# EAGLE library part 404-5X068-5X (library con-ept-one27)
ept One27 female straight 68pins 1.27 mm pitch SMT Board-to-Board Connector System for parallel, horizontal and perpendicular PCB connections as well as cable-to-board connections. For mezzanine board-to-board connections from 8mm up to 13.8mm. Available with 12 to 80 pins. www.ept.de
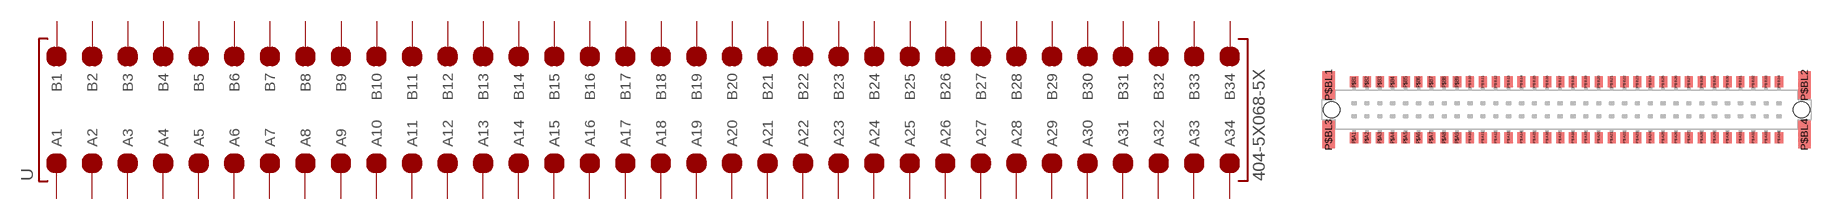
[diagram p25: symbol with the pads of 404-5X068-5X; footprint 404-5X068-5X]

Designator prefix -

## 404-5X068-5X  [404-5X068-5X]
P$A1  A1  pas
P$A2  A2  pas
P$A3  A3  pas
P$A4  A4  pas
P$A5  A5  pas
P$A6  A6  pas
P$A7  A7  pas
P$A8  A8  pas
P$A9  A9  pas
P$A10  A10  pas
P$A11  A11  pas
P$A12  A12  pas
P$A13  A13  pas
P$A14  A14  pas
P$A15  A15  pas
P$A16  A16  pas
P$A17  A17  pas
P$A18  A18  pas
P$A19  A19  pas
P$A20  A20  pas
P$A21  A21  pas
P$A22  A22  pas
P$A23  A23  pas
P$A24  A24  pas
P$A25  A25  pas
P$A26  A26  pas
P$A27  A27  pas
P$A28  A28  pas
P$A29  A29  pas
P$A30  A30  pas
P$A31  A31  pas
P$A32  A32  pas
P$A33  A33  pas
P$A34  A34  pas
P$B1  B1  pas
P$B2  B2  pas
P$B3  B3  pas
P$B4  B4  pas
P$B5  B5  pas
P$B6  B6  pas
P$B7  B7  pas
P$B8  B8  pas
P$B9  B9  pas
P$B10  B10  pas
P$B11  B11  pas
P$B12  B12  pas
P$B13  B13  pas
P$B14  B14  pas
P$B15  B15  pas
P$B16  B16  pas
P$B17  B17  pas
P$B18  B18  pas
P$B19  B19  pas
P$B20  B20  pas
P$B21  B21  pas
P$B22  B22  pas
P$B23  B23  pas
P$B24  B24  pas
P$B25  B25  pas
P$B26  B26  pas
P$B27  B27  pas
P$B28  B28  pas
P$B29  B29  pas
P$B30  B30  pas
P$B31  B31  pas
P$B32  B32  pas
P$B33  B33  pas
P$B34  B34  pas

## Footprint 404-5X068-5X (pad centres in mm)
ept One27 female straight 68pins 1.27 mm pitch SMT Board-to-Board Connector System for parallel, horizontal and perpendicular PCB connections as well as cable-to-board connections. For mezzanine board-to-board connections from 8mm up to 13.8mm. Available with 12 to 80 pins. www.ept.de
smd 0.8 x 1.1: P$A1 -19.685,-2.75; P$A2 -18.415,-2.75; P$A3 -17.145,-2.75; P$A4 -15.875,-2.75; P$A5 -14.605,-2.75; P$A6 -13.335,-2.75; P$A7 -12.065,-2.75; P$A8 -10.795,-2.75; P$A9 -9.525,-2.75; P$A10 -8.255,-2.75; P$A11 -6.985,-2.75; P$A12 -5.715,-2.75; P$A13 -4.445,-2.75; P$A14 -3.175,-2.75; P$A15 -1.905,-2.75; P$A16 -0.635,-2.75; P$A17 0.635,-2.75; P$A18 1.905,-2.75; P$A19 3.175,-2.75; P$A20 4.445,-2.75; P$A21 5.715,-2.75; P$A22 6.985,-2.75; P$A23 8.255,-2.75; P$A24 9.525,-2.75; P$A25 10.795,-2.75; P$A26 12.065,-2.75; P$A27 13.335,-2.75; P$A28 14.605,-2.75; P$A29 15.875,-2.75; P$A30 17.145,-2.75; P$A31 18.415,-2.75; P$A32 19.685,-2.75; P$A33 20.955,-2.75; P$A34 22.225,-2.75; P$B1 -19.685,2.75; P$B2 -18.415,2.75; P$B3 -17.145,2.75; P$B4 -15.875,2.75; P$B5 -14.605,2.75; P$B6 -13.335,2.75; P$B7 -12.065,2.75; P$B8 -10.795,2.75; P$B9 -9.525,2.75; P$B10 -8.255,2.75; P$B11 -6.985,2.75; P$B12 -5.715,2.75; P$B13 -4.445,2.75; P$B14 -3.175,2.75; P$B15 -1.905,2.75; P$B16 -0.635,2.75; P$B17 0.635,2.75; P$B18 1.905,2.75; P$B19 3.175,2.75; P$B20 4.445,2.75; P$B21 5.715,2.75; P$B22 6.985,2.75; P$B23 8.255,2.75; P$B24 9.525,2.75; P$B25 10.795,2.75; P$B26 12.065,2.75; P$B27 13.335,2.75; P$B28 14.605,2.75; P$B29 15.875,2.75; P$B30 17.145,2.75; P$B31 18.415,2.75; P$B32 19.685,2.75; P$B33 20.955,2.75; P$B34 22.225,2.75
smd 1.2 x 2.7: P$BL1 -22.195,2.45; P$BL2 24.735,2.45; P$BL3 -22.195,-2.45; P$BL4 24.735,-2.45
hole 1.6 at -21.895,0
hole 1.6 at 24.435,0